# Altium footprint library MC34063.PcbLib: 1 footprints
Each footprint in its own frame and in the unit in brackets; x right, y up, seen from the top. Pads: shape width x height; smd on the part's side, far side on the other; paste and mask are expansions set on the pad; w line width, h text height; cw(c..) or ccw(c..) is an arc to the next point about the centre after c.
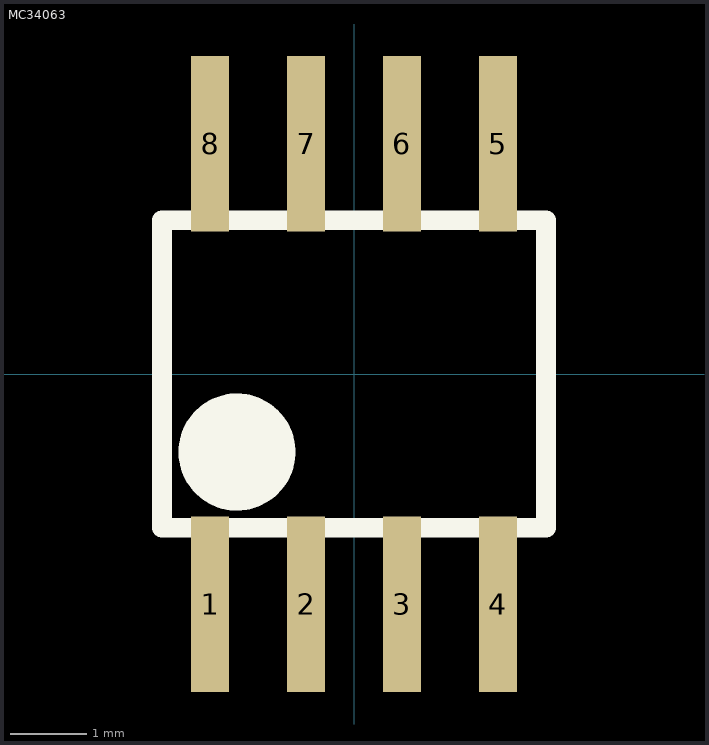
[diagram p0: the footprint, top view; thin cyan lines are the x and y axes]

## MC34063 [mm]
pads (8):
  rect 0.49x2.286 smd: 1(-1.875,-3) 2(-0.625,-3) 3(0.625,-3) 4(1.875,-3) 5(1.875,3) 6(0.625,3) 7(-0.625,3) 8(-1.875,3)
Top Overlay:
  circle w0.762: c-1.524,-1.016 r0.381
  lines w0.254: -2.5,-2 2.5,-2 2.5,2 -2.5,2 -2.5,-2